# Altium integrated library Ceramic Capacitors 0201 25V.IntLib: 2 symbols
Pins are listed as number, name and electrical type; pins without a type are passive.

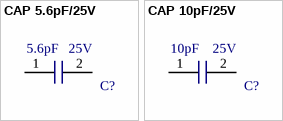
[diagram p0: symbols CAP 5.6pF/25V to CAP 10pF/25V]

## CAP 5.6pF/25V
designator C?  Voltage: 25V  Capacitance: 5.6pF  (hidden comment: CAP 5.6pF/25V)
5.6pF ±0.25pF 25V Ceramic Capacitor C0G, NP0 0201 (0603 Metric); Manufacturer 1: Murata Electronics North America; Manufacturer 1 PN: GJM0335C1E5R6CB01D; Digikey PN: 490-3073-1-ND; Mouser PN: 81-GJM0335C1E5R6CB01; ComponentLink1Description: Datasheet; ComponentLink1URL: https://search.murata.co.jp/Ceramy/image/img/A01X/G101/ENG/GJM0335C1E5R6CB01-01.pdf
footprint CAP 5.6pF/25V (5.6pF ±0.25pF 25V Ceramic Capacitor C0G, NP0 0201 (0603 Metric))
pins: 1, 2

## CAP 10pF/25V
designator C?  Voltage: 25V  Capacitance: 10pF  (hidden comment: CAP 10pF/25V)
10pF ±5% 25V Ceramic Capacitor C0G, NP0 0201 (0603 Metric); Manufacturer 1: Murata Electronics North America; Manufacturer 1 PN: GJM0335C1E100JB01D; Digikey PN: 490-13312-1-ND; Mouser PN: 81-GJM0335C1E100JB1D; ComponentLink1Description: Datasheet; ComponentLink1URL: https://search.murata.co.jp/Ceramy/image/img/A01X/G101/ENG/GJM0335C1E100JB01-01.pdf
footprint CAP 10pF/25V (10pF ±5% 25V Ceramic Capacitor C0G, NP0 0201 (0603 Metric))
pins: 1, 2